# EAGLE library part L3GD20H (library miller)
L3GD20H 3-axis gyroscope ST Microelectronics I2C or SPI serial communications LGA-16 package
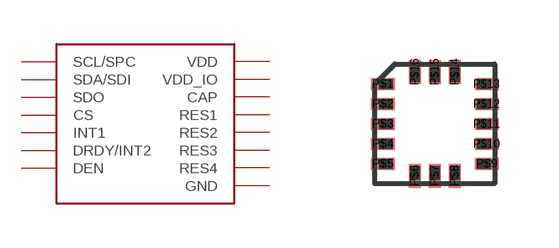
[diagram p11: symbol with the pads of LGA16L; footprint LGA16L]

Designator prefix -

## L3GD20H  [LGA16L]
P$1  VDD_IO  pwr
P$2  SCL/SPC
P$3  SDA/SDI
P$4  SDO
P$5  CS
P$6  DRDY/INT2
P$7  INT1
P$8  DEN
P$9  RES1
P$10  RES2
P$11  RES3
P$12  GND  pwr
P$13  GND  pwr
P$14  CAP
P$15  RES4
P$16  VDD  pwr

## Footprint LGA16L (pad centres in mm)
smd 0.6 x 0.3: P$1 -1.3,1; P$2 -1.3,0.5; P$3 -1.3,0; P$4 -1.3,-0.5; P$5 -1.3,-1; P$9 1.3,-1; P$10 1.3,-0.5; P$11 1.3,0; P$12 1.3,0.5; P$13 1.3,1
smd 0.3 x 0.6: P$6 -0.5,-1.3; P$7 0,-1.3; P$8 0.5,-1.3; P$14 0.5,1.3; P$15 0,1.3; P$16 -0.5,1.3